# EAGLE library part 74AHC125 (library eagle_src)
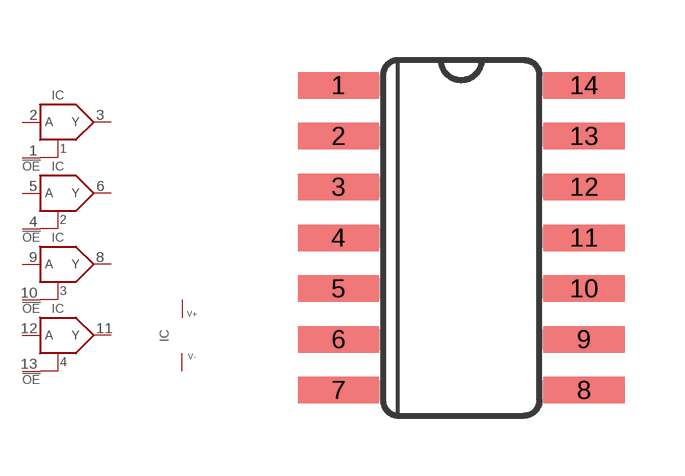
[diagram p0: symbol with the pads of SOIC14; footprint SOIC14]

Designator prefix IC; gates 1=3-STATE_BUFFER 2=3-STATE_BUFFER 3=3-STATE_BUFFER 4=3-STATE_BUFFER PWR=PWR+-

## 74AHC125  [SOIC14]
1  1:OE
2  1:A
3  1:Y
4  2:OE
5  2:A
6  2:Y
7  PWR:V-  pwr
8  3:Y
9  3:A
10  3:OE
11  4:Y
12  4:A
13  4:OE
14  PWR:V+  pwr

## Footprint SOIC14 (pad centres in mm)
3D model <http://grabcad.com/library/106x-soic-packages-small-outline-integrated-circuit-1/details?folder_id=13776991>
smd 2.032 x 0.66: 1 -3.073,3.82; 2 -3.073,2.55; 3 -3.073,1.28; 4 -3.073,0.01; 5 -3.073,-1.26; 6 -3.073,-2.53; 7 -3.073,-3.8; 8 3.073,-3.8; 9 3.073,-2.53; 10 3.073,-1.26; 11 3.073,0.01; 12 3.073,1.28; 13 3.073,2.55; 14 3.073,3.82